# Altium footprint library 74AHC.PcbLib: 2 footprints
Each footprint in its own frame and in the unit in brackets; x right, y up, seen from the top. Pads: shape width x height; smd on the part's side, far side on the other; paste and mask are expansions set on the pad; w line width, h text height; cw(c..) or ccw(c..) is an arc to the next point about the centre after c.
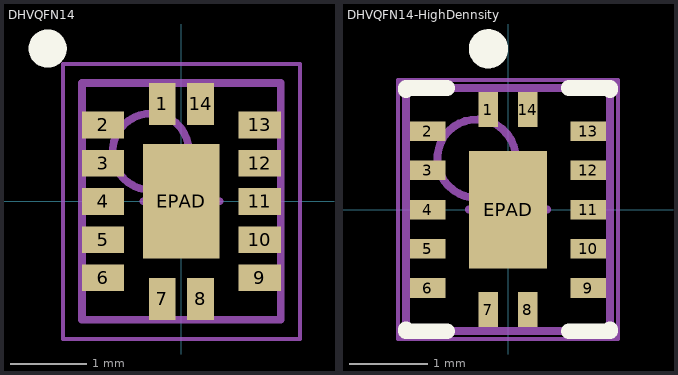
[diagram p0: the footprints below, top view; thin cyan lines are the x and y axes]

## DHVQFN14 [mm] "plastic dual in-line compatible thermal enhanced very thin quad flat package; no leads;  14 terminals; body 2.5 x 3 x 0.85 mm"
height 1
pads (15):
  rect 0.35x0.55 smd: 1(-0.25,1.275) 7(-0.25,-1.275) 8(0.25,-1.275) 14(0.25,1.275)
  rect 0.55x0.35 smd: 2(-1.025,1) 3(-1.025,0.5) 4(-1.025,0) 5(-1.025,-0.5) 6(-1.025,-1) 9(1.025,-1) 10(1.025,-0.5) 11(1.025,0) 12(1.025,0.5) 13(1.025,1)
  rect 1x1.5 smd: EPAD(0,0)
Top Overlay:
  circle w0.25: c-1.75,2 r0.125
Mechanical 13:
  circle w0.1: c-0.4,0.65 r0.5
  lines w0.1: -1.3,-1.55 1.3,-1.55 1.3,1.55 -1.3,1.55 -1.3,-1.55
Mechanical 15:
  lines w0.05: -1.55,-1.8 1.55,-1.8 1.55,1.8 -1.55,1.8 -1.55,-1.8
  lines w0.1: -0.5,0 0.5,0 ; 0,-0.5 0,0.5
3D body "DHVQFN14.step": height 1, standoff 0, extent -1.3,-1.55 1.3,1.55

## DHVQFN14-HighDennsity [mm] "plastic dual in-line compatible thermal enhanced very thin quad flat package; no leads;  14 terminals; body 2.5 x 3 x 0.85 mm"
height 1
pads (15):
  rect 0.25x0.45 smd: 1(-0.25,1.275) 7(-0.25,-1.275) 8(0.25,-1.275) 14(0.25,1.275)
  rect 0.45x0.25 smd: 2(-1.025,1) 3(-1.025,0.5) 4(-1.025,0) 5(-1.025,-0.5) 6(-1.025,-1) 9(1.025,-1) 10(1.025,-0.5) 11(1.025,0) 12(1.025,0.5) 13(1.025,1)
  rect 1x1.5 smd: EPAD(0,0)
Top Overlay:
  circle w0.25: c-0.25,2.05 r0.125
  lines w0.2: -1.3,-1.525 -1.3,-1.55 -0.775,-1.55 ; -1.3,1.525 -1.3,1.55 -0.775,1.55 ; 0.775,-1.55 1.3,-1.55 1.3,-1.525 ; 0.775,1.55 1.3,1.55 1.3,1.525
Mechanical 13:
  circle w0.1: c-0.4,0.65 r0.5
  lines w0.1: -1.3,-1.55 -1.3,1.55 1.3,1.55 1.3,-1.55 -1.3,-1.55
Mechanical 15:
  lines w0.05: -1.4,-1.65 -1.4,1.65 1.4,1.65 1.4,-1.65 -1.4,-1.65
  lines w0.1: -0.5,0 0.5,0 ; 0,-0.5 0,0.5
3D body "DHVQFN14-HighDennsity.step": height 1, standoff 0, extent -1.3,-1.55 1.3,1.55